# EAGLE library part MOTORTREIBER (library Bibliothek_bürstenloser_Motor v8)
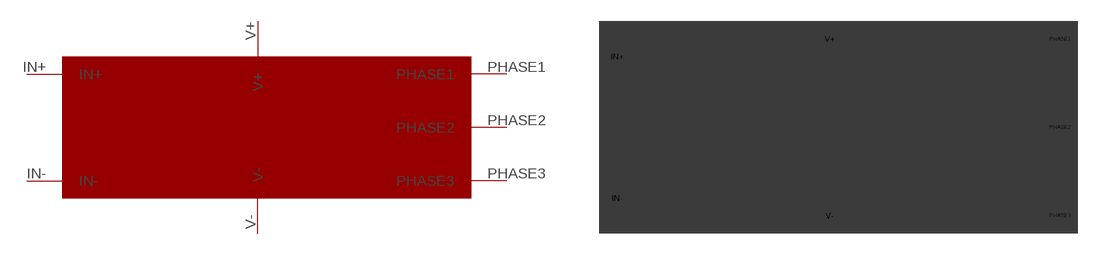
[diagram p0: symbol with the pads of MOTORTREIBER; footprint MOTORTREIBER]

Designator prefix -

## MOTORTREIBER  [MOTORTREIBER]
IN+  IN+
IN-  IN-
PHASE1  PHASE1
PHASE2  PHASE2
PHASE3  PHASE3
V+  V+
V-  V-

## Footprint MOTORTREIBER (pad centres in mm)
smd 1.27 x 0.635: IN+ -11.43,6.35; IN- -11.43,-3.81; PHASE1 20.32,7.62; PHASE2 20.32,1.27; PHASE3 20.32,-5.08; V+ 3.81,7.62; V- 3.81,-5.08